# Altium footprint library gost_lib_footpr.PcbLib: 34 footprints (part 1 of 3)
Each footprint in its own frame and in the unit in brackets; x right, y up, seen from the top. Pads: shape width x height; smd on the part's side, far side on the other; paste and mask are expansions set on the pad; w line width, h text height; cw(c..) or ccw(c..) is an arc to the next point about the centre after c.
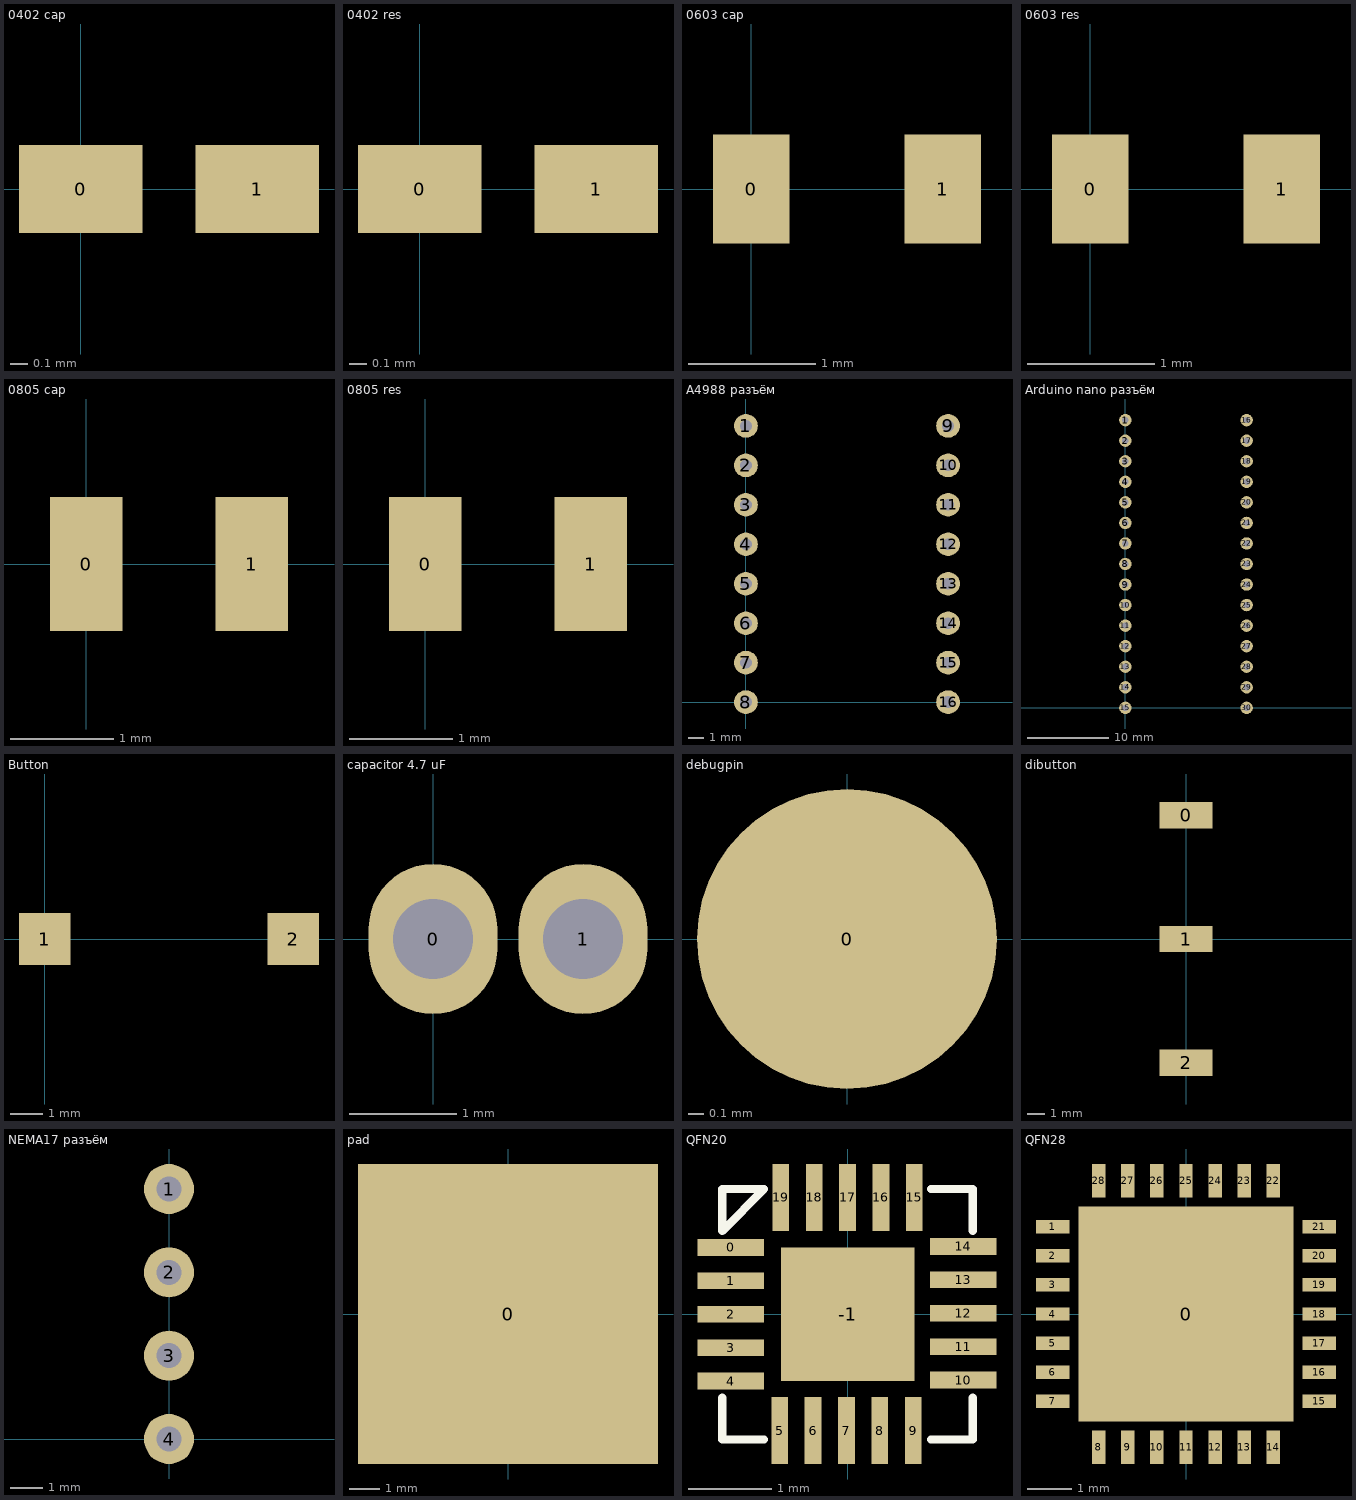
[diagram p0: the footprints below, top view; thin cyan lines are the x and y axes]

## 0402 cap [mm]
pads (2):
  rect 0.7x0.5 smd: 0(0,0) 1(1,0)
3D body "CAPC-0402-T0.55-BN.stp": height 0.55, standoff 0, extent -0.025,-0.275 1.025,0.275

## 0402 res [mm]
pads (2):
  rect 0.7x0.5 smd: 0(0,0) 1(1,0)
3D body "0402 SMD Resistor.step": height 0.2, standoff 0, extent 0,-0.3 1,0.3

## 0603 cap [mm]
pads (2):
  rect 0.6x0.85 smd: 0(0,0) 1(1.5,0)
3D body "Cap_0603.step": height 0.78, standoff -0.02, extent -0.1,-0.4 1.5,0.4

## 0603 res [mm]
pads (2):
  rect 0.6x0.85 smd: 0(0,0) 1(1.5,0)
3D body "0603 SMD Resistor.step": height 0.3, standoff 0, extent -0.05,-0.4 1.55,0.4

## 0805 cap [mm]
pads (2):
  rect 0.7x1.3 smd: 0(0,0) 1(1.6,0)
3D body "CapCeramic_Kemet_0805_2012.step": height 0.9, standoff 0, extent -0.2,-0.625 1.8,0.625

## 0805 res [mm]
pads (2):
  rect 0.7x1.3 smd: 0(0,0) 1(1.6,0)
3D body "0805 SMD Resistor.step": height 0.78, standoff 0, extent -0.2,-0.625 1.8,0.625

## A4988 разъём [mil]
pads (16):
  round 60 hole 30: 1(0,700) 2(0,600) 3(0,500) 4(0,400) 5(0,300) 6(0,200) 7(0,100) 8(0,0) 9(511.81,700) 10(511.81,600) 11(511.81,500) 12(511.81,400) 13(511.81,300) 14(511.81,200) 15(511.81,100) 16(511.81,0)
3D body "8-Pin Header - Female - 2.54mm.step": height 185.04, standoff -129.92, extent -48.43,-59.84 50,759.84
3D body "8-Pin Header - Female - 2.54mm.step": height 185.04, standoff -129.92, extent 462.6,-59.84 561.02,759.84

## Arduino nano разъём [mil]
pads (30):
  round 60 hole 30: 1(0,1400) 2(0,1300) 3(0,1200) 4(0,1100) 5(0,1000) 6(0,900) 7(0,800) 8(0,700) 9(0,600) 10(0,500) 11(0,400) 12(0,300) 13(0,200) 14(0,100) 15(0,0) 16(590.55,1400) 17(590.55,1300) 18(590.55,1200) 19(590.55,1100) 20(590.55,1000) 21(590.55,900) 22(590.55,800) 23(590.55,700) 24(590.55,600) 25(590.55,500) 26(590.55,400) 27(590.55,300) 28(590.55,200) 29(590.55,100) 30(590.55,0)
3D body "15-Pin Header - Female - 2.54mm.step": height 196.85, standoff -118.11, extent 535.79,-60 634.21,1459.69
3D body "15-Pin Header - Female - 2.54mm.step": height 196.85, standoff -118.11, extent -50,-59.84 48.43,1459.84

## Button [mm]
pads (2):
  rect 1.6x1.6 smd: 1(0,0) 2(7.7,0)

## capacitor 4.7 uF [mm]
pads (2):
  oval 1.2x1.4 hole 0.75: 0(0,0) 1(1.4,0)
3D body: height 8.1, standoff 0.1, extent -1.3,-2 2.7,2

## debugpin [mm]
pads (1):
  round 2 smd: 0(0,0)

## dibutton [mm]
pads (3):
  rect 3x1.5 smd: 0(0,7) 1(0,0) 2(0,-7)

## NEMA17 разъём [mil]
pads (4):
  round 60 hole 30: 1(0,300) 2(0,200) 3(0,100) 4(0,0)
3D body "Рейка 1 на 4.stp": height 414.96, standoff -118.11, extent -48.43,-50.1 50,350.1

## pad [mm]
pads (1):
  rect 10x10 smd: 0(0,0)

## QFN20 [mm]
pads (21):
  rect 0.8x0.2 smd: 0(-1.4,0.8) 1(-1.4,0.4) 2(-1.4,0) 3(-1.4,-0.4) 4(-1.4,-0.8) 10(1.387,-0.788) 11(1.387,-0.388) 12(1.387,0.012) 13(1.387,0.412) 14(1.387,0.812)
  rect 0.2x0.8 smd: 5(-0.813,-1.394) 6(-0.413,-1.394) 7(-0.013,-1.394) 8(0.387,-1.394) 9(0.787,-1.394) 15(0.8,1.4) 16(0.4,1.4) 17(0,1.4) 18(-0.4,1.4) 19(-0.8,1.4)
  rect 1.6x1.6 smd: -1(0,0)
Top Overlay:
  lines w0.1: -1.5,-1 -1.5,-1.5 -1,-1.5 ; 1,-1.5 1.5,-1.5 1.5,-1 ; 1,1.5 1.5,1.5 1.5,1 ; -1.5,1 -1,1.5 -1.5,1.5 -1.5,1
3D body "QFN-20.SLDPRT": height 0.6, standoff 0, extent -1.55,-1.55 1.55,1.55

## QFN28 [mm]
pads (29):
  rect 4.8x4.8 smd: 0(0,0)
  rect 0.75x0.3 smd: 1(-2.975,1.95) 2(-2.975,1.3) 3(-2.975,0.65) 4(-2.975,0) 5(-2.975,-0.65) 6(-2.975,-1.3) 7(-2.975,-1.95) 15(2.975,-1.95) 16(2.975,-1.3) 17(2.975,-0.65) 18(2.975,0) 19(2.975,0.65) 20(2.975,1.3) 21(2.975,1.95)
  rect 0.3x0.75 smd: 8(-1.95,-2.975) 9(-1.3,-2.975) 10(-0.65,-2.975) 11(0,-2.975) 12(0.65,-2.975) 13(1.3,-2.975) 14(1.95,-2.975) 22(1.95,2.975) 23(1.3,2.975) 24(0.65,2.975) 25(0,2.975) 26(-0.65,2.975) 27(-1.3,2.975) 28(-1.95,2.975)
3D body "QFN-28-1EP_6x6mm_Pitch0.65mm.step": height 0.92, standoff 0, extent -3,-3 3,3